# Altium schematic symbol library BATT-9V.SchLib: 1 symbol
Pins are listed as number, name and electrical type; pins without a type are passive.

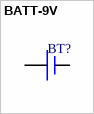
[diagram p0: symbol BATT-9V]

## BATT-9V
designator BT?
9V Battery Holder
pins: 1 +, 2 -